# Altium schematic symbol library CAP_1210.SchLib: 1 symbol
Pins are listed as number, name and electrical type; pins without a type are passive.

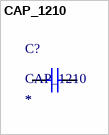
[diagram p0: symbol CAP_1210]

## CAP_1210
designator C?
Value: *; Tolerance: *
pins: 1, 2